# Altium footprint library PA4309104NLT.PcbLib: 1 footprints
Each footprint in its own frame and in the unit in brackets; x right, y up, seen from the top. Pads: shape width x height; smd on the part's side, far side on the other; paste and mask are expansions set on the pad; w line width, h text height; cw(c..) or ccw(c..) is an arc to the next point about the centre after c.
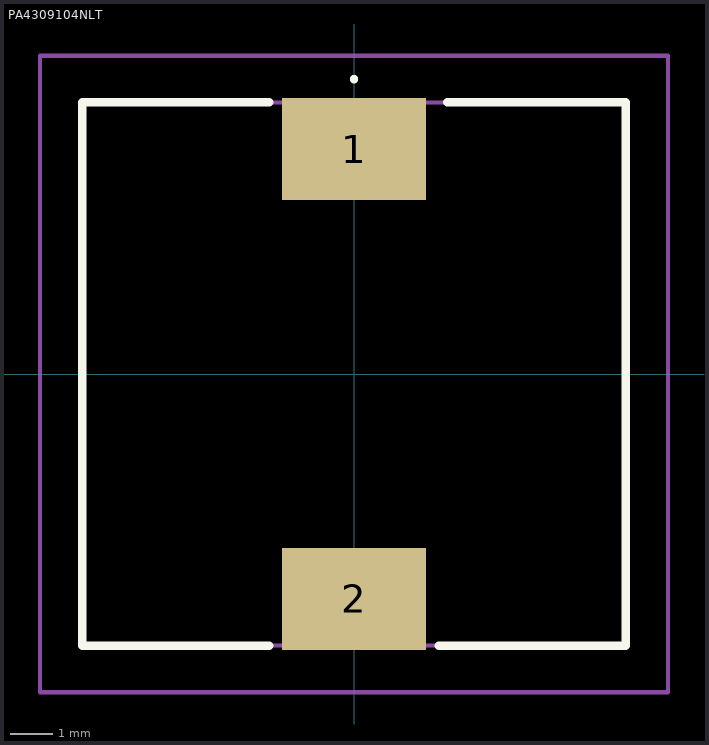
[diagram p0: the footprint, top view; thin cyan lines are the x and y axes]

## PA4309104NLT [mm]
pads (2):
  rect 3.4x2.4 smd: 1(0,5.3) 2(0,-5.3)
Top Overlay:
  lines w0.1: 0,6.9 cw(c0,6.95) 0,7 ; 0,6.9 0,6.9 ; 0,6.9 ccw(c0,6.95) 0,7 ; 0,7 0,7
  lines w0.2: -2,-6.4 -6.4,-6.4 -6.4,6.4 -2,6.4 ; 2,-6.4 6.4,-6.4 6.4,6.4 2.2,6.4
Mechanical 15:
  lines w0.1: -6.4,-6.4 6.4,-6.4 6.4,6.4 -6.4,6.4 -6.4,-6.4
Mechanical 20:
  lines w0.1: -7.4,-7.5 7.4,-7.5 7.4,7.5 -7.4,7.5 -7.4,-7.5